# EAGLE library part 6120XX22921_61202622921 (library con-wurth)
2.54 mm Male Angled Box Header with long lever KIND PROPERTIES: Pitch 2.54 mm Gender:Male MATERIAL PROPERTIES: Insulator Material:PBT Insulator Flammability Rating UL94 V-0 Insulator Color:Black Contact Material :Copper Alloy Contact Plating :Gold Contact Type: Stamped GENERAL INFORMATION: Operating Temperature:-40 °C up to +125 °C Compliance:RoHS Working Voltage: 250 V (AC) Withstanding Voltage:500 V (AC) Contact Resistance: 20 mΩ Insulation Resistance:1000 MΩ CERTIFICATION UL Approval:E323964 PACKAGING PROPERTIES Packaging :Tray <https://www.we-online.de/katalog/media/o58851v209%20Family_long_lever_WR-BHD_6120xx22x21.jpg> Details see: https://www.we-online.de/katalog/en/em/BHD_2_54_MALE_ANGLED_BOX_HEADER_WITH_LONG_LEVER_6120XX22921 Updated by Yingchun,Shan 2019-10-31 2019 (C) Würth Elektronik
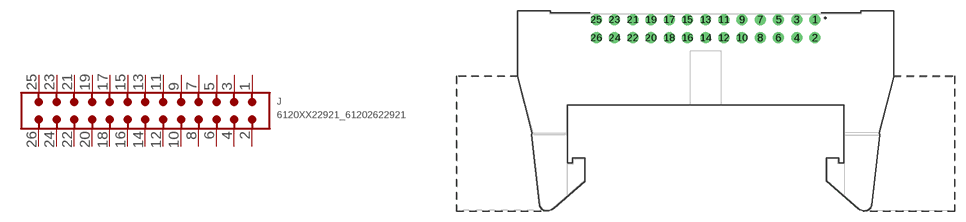
[diagram p195: symbol with the pads of 61202622921; footprint 61202622921]

Designator prefix J

## 6120XX22921_61202622921 (CONTACT-RESISTANCE: 20mOhm; DATASHEET-URL: https://www.we-online.com/redexpert/spec/61202622921?ae; GENDER: Male; IR: 3A; LENGTH: 52.52mm; MOUNT: THT; PACKAGING: Tray; PART-NUMBER: 61202622921; PINS: 26; PITCH: 2.54mm; TYPE: Angled; VALUE: 61202622921; WORKING-VOLTAGE: 250V(AC))  [61202622921]
1  1  pas
2  2  pas
3  3  pas
4  4  pas
5  5  pas
6  6  pas
7  7  pas
8  8  pas
9  9  pas
10  10  pas
11  11  pas
12  12  pas
13  13  pas
14  14  pas
15  15  pas
16  16  pas
17  17  pas
18  18  pas
19  19  pas
20  20  pas
21  21  pas
22  22  pas
23  23  pas
24  24  pas
25  25  pas
26  26  pas

## Footprint 61202622921 (pad centres in mm)
WR-BHD 2.54 mm Male Angled Box Header with long lever, 26 Pins
drill 1.02: 1 15.24,7.36; 2 15.24,4.82; 3 12.7,7.36; 4 12.7,4.82; 5 10.16,7.36; 6 10.16,4.82; 7 7.62,7.36; 8 7.62,4.82; 9 5.08,7.36; 10 5.08,4.82; 11 2.54,7.36; 12 2.54,4.82; 13 0,7.36; 14 0,4.82; 15 -2.54,7.36; 16 -2.54,4.82; 17 -5.08,7.36; 18 -5.08,4.82; 19 -7.62,7.36; 20 -7.62,4.82; 21 -10.16,7.36; 22 -10.16,4.82; 23 -12.7,7.36; 24 -12.7,4.82; 25 -15.24,7.36; 26 -15.24,4.82